# EAGLE library part LTC3105EMS#PBF (library SamacSys_Parts)
LINEAR TECHNOLOGY - LTC3105EMS#PBF - IC, DC-DC CONVERTOR, MSOP-12 Source: Datasheet <http://cds.linear.com/docs/en/datasheet/3105fb.pdf>
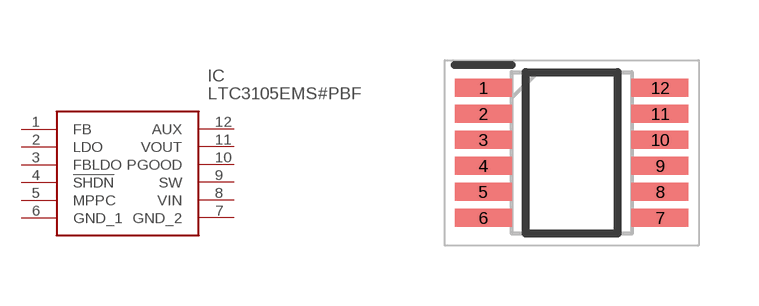
[diagram p0: symbol with the pads of SOP65P490X110-12N; footprint SOP65P490X110-12N]

Designator prefix IC

## LTC3105EMS#PBF (Description: LINEAR TECHNOLOGY - LTC3105EMS#PBF - IC, DC-DC CONVERTOR, MSOP-12; Height: 1.1mm; Manufacturer_Name: Linear Technology; Manufacturer_Part_Number: LTC3105EMS#PBF; Mouser_Part_Number: 584-LTC3105EMS#PBF; Mouser_Price-Stock: https://www.mouser.co.uk/ProductDetail/Analog-Devices-Linear-Technology/LTC3105EMSPBF?qs=hVkxg5c3xu8hHtRAqQG%2Fdg%3D%3D)  [SOP65P490X110-12N]
1  FB
2  LDO
3  FBLDO
4  !SHDN
5  MPPC
6  GND_1
7  GND_2
8  VIN
9  SW
10  PGOOD
11  VOUT
12  AUX

## Footprint SOP65P490X110-12N (pad centres in mm)
MS Package 12-Lead Plastic MSOP_1
smd 1.425 x 0.45: 1 -2.212,1.625; 2 -2.212,0.975; 3 -2.212,0.325; 4 -2.212,-0.325; 5 -2.212,-0.975; 6 -2.212,-1.625; 7 2.212,-1.625; 8 2.212,-0.975; 9 2.212,-0.325; 10 2.212,0.325; 11 2.212,0.975; 12 2.212,1.625